# Altium footprint library PTS647SK38SMTR2LFS.PcbLib: 1 footprints
Each footprint in its own frame and in the unit in brackets; x right, y up, seen from the top. Pads: shape width x height; smd on the part's side, far side on the other; paste and mask are expansions set on the pad; w line width, h text height; cw(c..) or ccw(c..) is an arc to the next point about the centre after c.
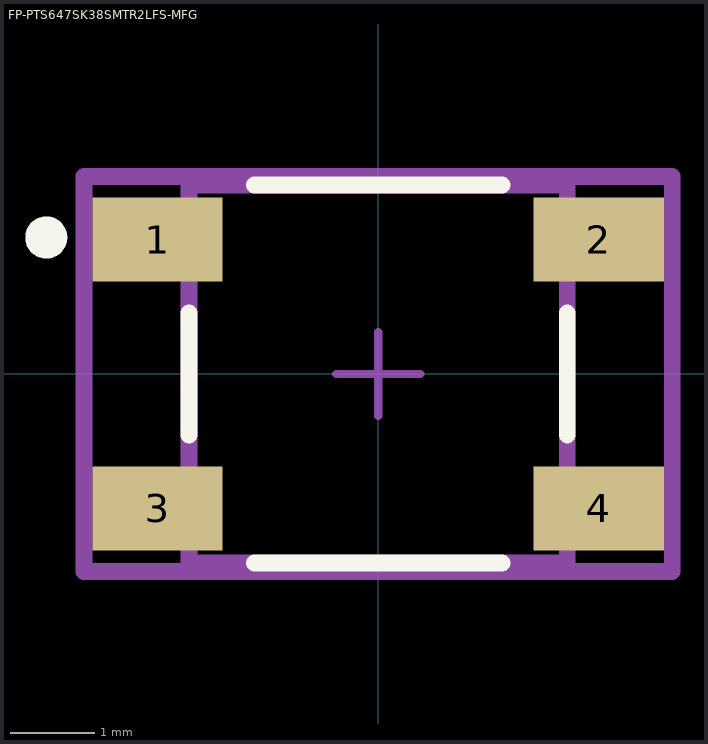
[diagram p0: the footprint, top view; thin cyan lines are the x and y axes]

## FP-PTS647SK38SMTR2LFS-MFG [mm]
pads (4):
  rect 1.55x1 smd paste+0 mask+0: 1(-2.625,1.6) 2(2.625,1.6) 3(-2.625,-1.6) 4(2.625,-1.6)
Top Overlay:
  circle w0.25: c-3.95,1.625 r0.125
  lines w0.2: -2.25,-0.725 -2.25,0.725 ; -1.475,-2.25 1.475,-2.25 ; -1.475,2.25 1.475,2.25 ; 2.25,-0.725 2.25,0.725
Top Assembly:
  lines w0.2: -3.5,-2.35 3.5,-2.35 3.5,2.35 -3.5,2.35 -3.5,-2.35
  text ".Designator" at 0,0.188 h1
Top 3D Body:
  lines w0.2: -2.25,-2.25 2.25,-2.25 2.25,2.25 -2.25,2.25 -2.25,-2.25
Top Courtyard:
  lines w0.2: -3.5,-2.35 3.5,-2.35 3.5,2.35 -3.5,2.35 -3.5,-2.35
Top Component Center:
  lines w0.1: -0.5,0 0.5,0 ; 0,-0.5 0,0.5
3D body "Switch_C&K_Components_PTS647SK38SMTR2LFS_eec.STEP": height 0.25, standoff 0, extent -3.5,-2.35 3.5,2.35